# EAGLE library part C1011_CONDOR (library trimble)
Condor C1011 GPS Receiver Module SMD GPS Receiver module, made by Trimble Navigation Ltd, Embedded Systems Group <http://www.trimble.com/embeddedsystems/> Partnumber: 68674-00 Datasheet, User Manual and Tools <http://www.trimble.com/embeddedsystems/condor-gps-module.aspx> Created by Trimble Navigation Ltd, Author: Christian Voit <mailto:christian_voit@trimble.com?subject=Trimble Eagle Library>
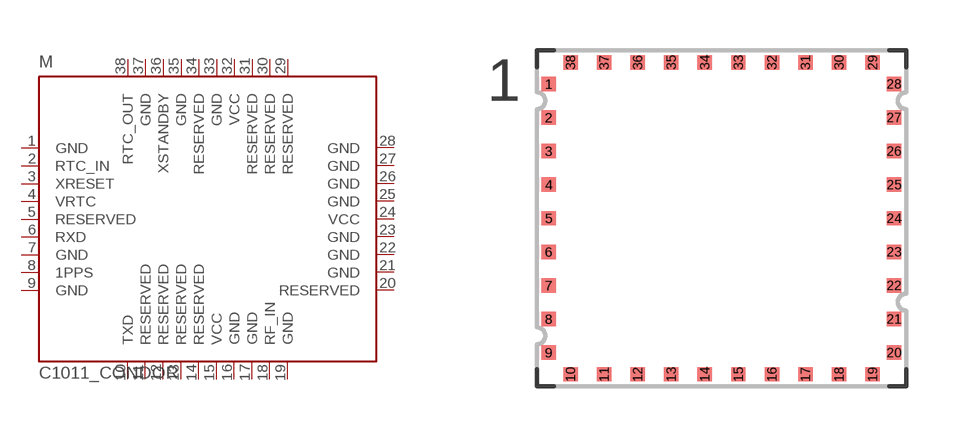
[diagram p2: symbol with the pads of 1011; footprint 1011]

Designator prefix M

## C1011_CONDOR-SMD  [1011]
1  GND  pwr
2  RTC_IN  in
3  XRESET  in
4  VRTC  in
5  RESERVED  nc
6  RXD  in
7  GND  pwr
8  1PPS  out
9  GND  pwr
10  TXD  out
11  RESERVED  nc
12  RESERVED  nc
13  RESERVED  nc
14  RESERVED  nc
15  VCC  pwr
16  GND  pwr
17  GND  pwr
18  RF_IN  in
19  GND  pwr
20  RESERVED  nc
21  GND  pwr
22  GND  pwr
23  GND  pwr
24  VCC  pwr
25  GND  pwr
26  GND  pwr
27  GND  pwr
28  GND  pwr
29  RESERVED  nc
30  RESERVED  nc
31  RESERVED  nc
32  VCC  pwr
33  GND  pwr
34  RESERVED  nc
35  GND  pwr
36  XSTANDBY  in
37  GND  pwr
38  RTC_OUT  out

## Footprint 1011 (pad centres in mm)
Package 1011, 38-pad QFN Size: 10 mm x 11 mm x 2.01 mm 38 SMD pads, 1 mm pad-pitch by Trimble Navigation Ltd, Embedded Systems Group <http://www.trimble.com/embeddedsystems/> Used for: Condor C1011 Created by Trimble Navigation Ltd, Author: Christian Voit <mailto:christian_voit@trimble.com?subject=Trimble Eagle Library>
smd 0.43 x 0.43: 1 -5.145,4; 2 -5.145,3; 3 -5.145,2; 4 -5.145,1; 5 -5.145,0; 6 -5.145,-1; 7 -5.145,-2; 8 -5.145,-3; 9 -5.145,-4; 10 -4.5,-4.645; 11 -3.5,-4.645; 12 -2.5,-4.645; 13 -1.5,-4.645; 14 -0.5,-4.645; 15 0.5,-4.645; 16 1.5,-4.645; 17 2.5,-4.645; 18 3.5,-4.645; 19 4.5,-4.645; 20 5.145,-4; 21 5.145,-3; 22 5.145,-2; 23 5.145,-1; 24 5.145,0; 25 5.145,1; 26 5.145,2; 27 5.145,3; 28 5.145,4; 29 4.5,4.645; 30 3.5,4.645; 31 2.5,4.645; 32 1.5,4.645; 33 0.5,4.645; 34 -0.5,4.645; 35 -1.5,4.645; 36 -2.5,4.645; 37 -3.5,4.645; 38 -4.5,4.645